# Altium integrated library NSC Converter Analog to Digital.IntLib: 246 symbols (part 3 of 7)
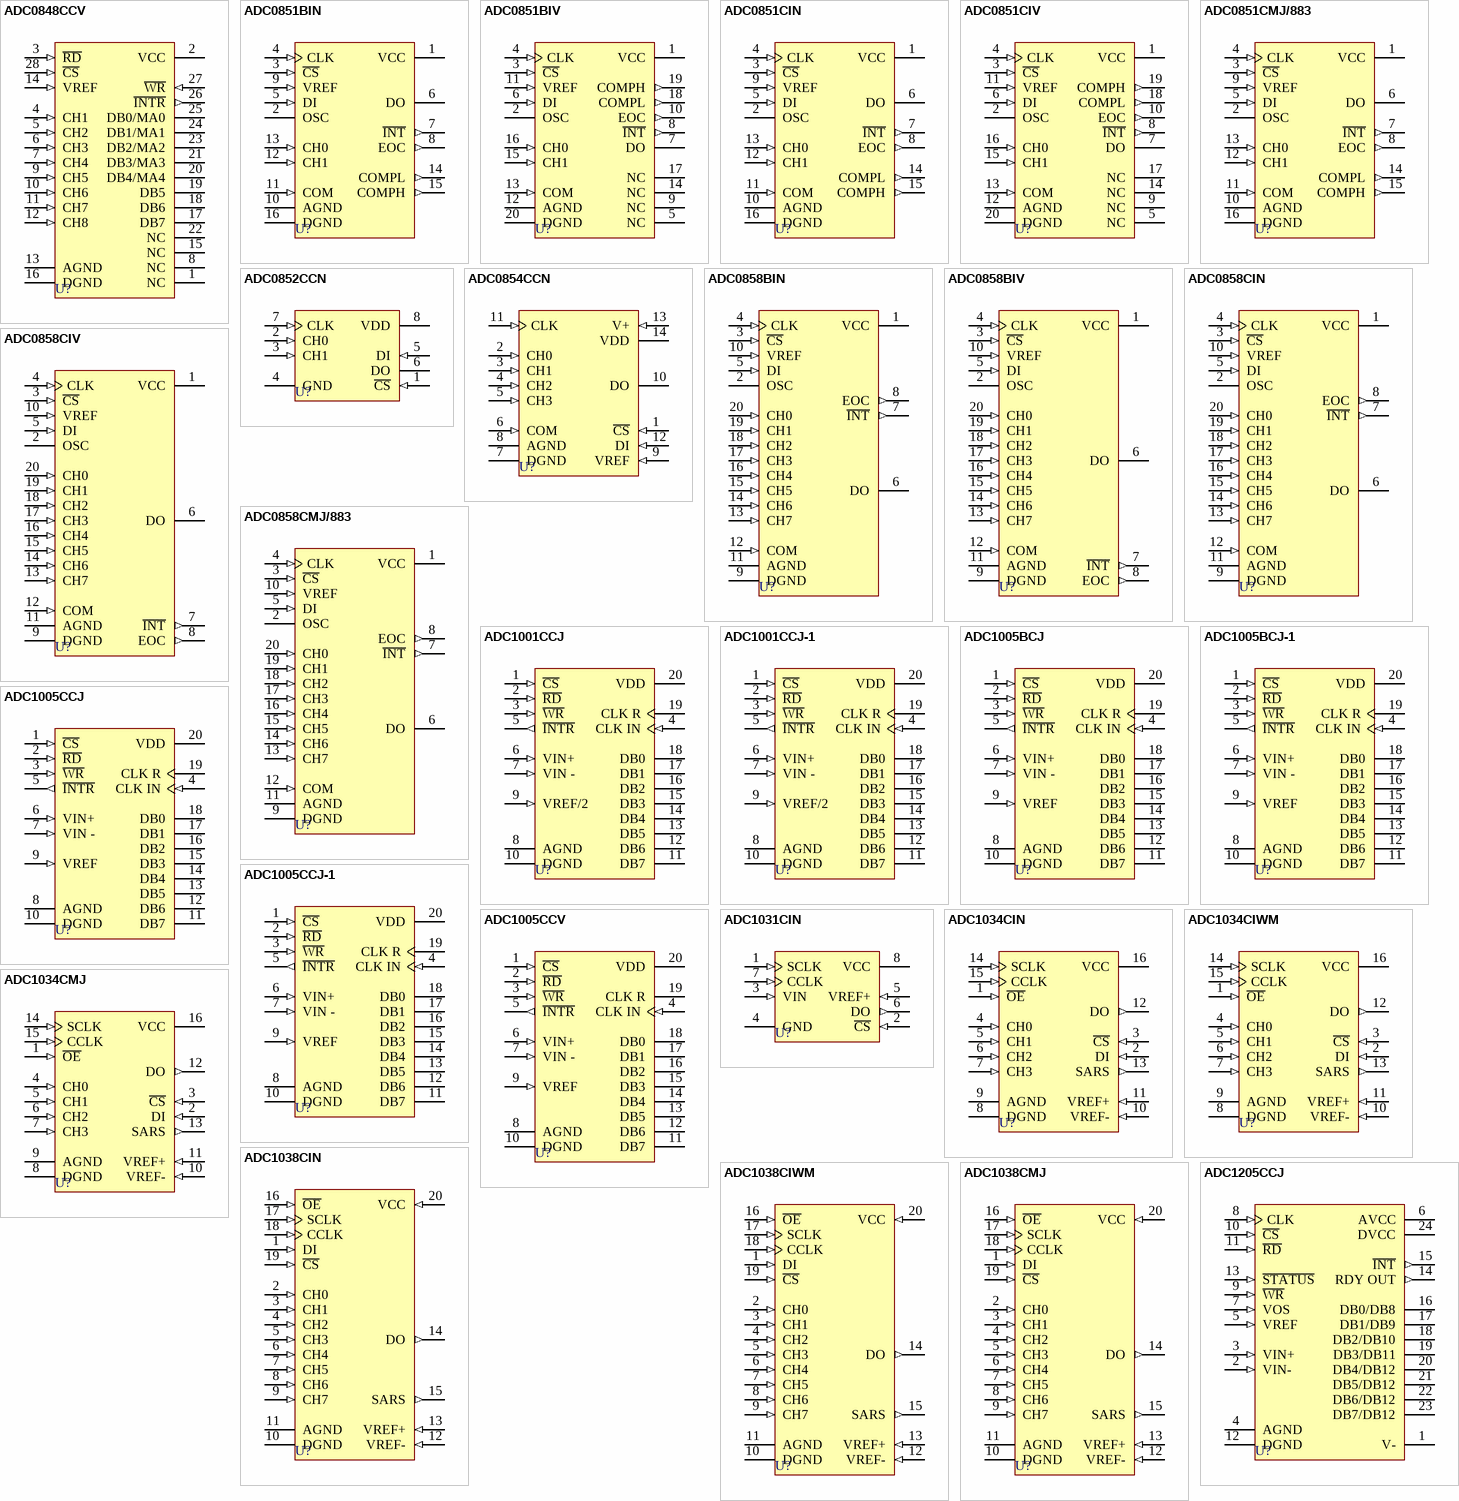
[diagram p11: symbols ADC0848CCV to ADC1205CCJ]

## ADC0848CCV
designator U?
8-Bit µP-Compatible A/D Converter with Multiplexer Option; Published: 15-Apr-2002; LatestRevisionDate: 13-Apr-2006; LatestRevisionNote: IPC-7351 Footprint Added.; DatasheetVersion: Jun-1999; PackageVersion: 2000; PackageReference: V28A; Publisher: Altium Limited; PackageDescription: 28-Pin Leaded Chip Carrier 1.27 mm Pitch; Code_IPC: PLCC-28; ComponentLink1Description: Manufacturer Link; ComponentLink1URL: http://www.national.com/; ComponentLink2Description: Datasheet; ComponentLink2URL: http://www.national.com/ds.cgi/DC/ADC0844.pdf; ComponentLink3Description: URL Link1; ComponentLink3URL: http://www.national.com/pf/DC/ADC0848.html
footprint V28A_N (Leaded Chip Carrier, 28-Leads, Body 11.5x11.5mm, Pitch 1.27mm, IPC Medium Density)
footprint V28A_L (Leaded Chip Carrier, 28-Leads, Body 11.5x11.5mm, Pitch 1.27mm, IPC High Density)
footprint V28A_M (Leaded Chip Carrier, 28-Leads, Body 11.5x11.5mm, Pitch 1.27mm, IPC Low Density)
3D model ADC0848-V28A (28-Pin Leaded Chip Carrier 1.27 mm Pitch)
pins: 1 NC, 2 VCC (power), 3 ~{RD} (in), 4 CH1 (in), 5 CH2 (in), 6 CH3 (in), 7 CH4 (in), 8 NC, 9 CH5 (in), 10 CH6 (in), 11 CH7 (in), 12 CH8 (in), 13 AGND (power), 14 VREF (in), 15 NC, 16 DGND (power), 17 DB7 (hiz), 18 DB6 (hiz), 19 DB5 (hiz), 20 DB4/MA4 (hiz), 21 DB3/MA3 (hiz), 22 NC, 23 DB2/MA2 (hiz), 24 DB1/MA1 (hiz), 25 DB0/MA0 (hiz), 26 ~{INTR} (out), 27 ~{WR} (in), 28 ~{CS} (in)

## ADC0851BIN
designator U?
8-Bit Analog Data Acquisition and Monitoring System; ComponentAvailability: Obsolete; Published: 15-Apr-2002; LatestRevisionDate: 06-Jun-2005; LatestRevisionNote: Stylized 3D Model Added.; DatasheetVersion: Jan-1995; PackageVersion: 2000; PackageReference: N16E; Publisher: Altium Limited; PackageDescription: DIP; 16 Leads; Row Spacing 7.62 mm; Pitch 2.54 mm; ComponentLink1Description: Manufacturer Link; ComponentLink1URL: http://www.national.com/; ComponentLink2Description: Datasheet; ComponentLink2URL: http://www.national.com/ds.cgi/DC/ADC0851.pdf; ComponentLink3Description: Discontinuation Notice; ComponentLink3URL: http://www.national.com/obs/obsolescence.txt; ComponentLink4Description: URL Link1; ComponentLink4URL: http://www.national.com/pf/DC/ADC0851.html
footprint N16E (DIP; 16 Leads; Row Spacing 7.62 mm; Pitch 2.54 mm)
3D model N16E (DIP; 16 Leads; Row Spacing 7.62 mm; Pitch 2.54 mm)
pins: 1 VCC (power), 2 OSC, 3 ~{CS} (in), 4 CLK (in), 5 DI (in), 6 DO (hiz), 7 ~{INT} (out), 8 EOC (out), 9 VREF (in), 10 AGND (power), 11 COM (in), 12 CH1 (in), 13 CH0 (in), 14 COMPL (out), 15 COMPH (out), 16 DGND (power)

## ADC0851BIV
designator U?
8-Bit Analog Data Acquisition and Monitoring System; ComponentAvailability: Obsolete; Published: 15-Apr-2002; LatestRevisionDate: 13-Apr-2006; LatestRevisionNote: IPC-7351 Footprint Added.; DatasheetVersion: Jan-1995; PackageVersion: 1996; PackageReference: V20A; Publisher: Altium Limited; PackageDescription: 20-Pin Leaded Chip Carrier 1.27 mm Pitch; Code_IPC: PLCC-20; ComponentLink1Description: Manufacturer Link; ComponentLink1URL: http://www.national.com/; ComponentLink2Description: Datasheet; ComponentLink2URL: http://www.national.com/ds.cgi/DC/ADC0851.pdf; ComponentLink3Description: Discontinuation Notice; ComponentLink3URL: http://www.national.com/obs/obsolescence.txt; ComponentLink4Description: URL Link1; ComponentLink4URL: http://www.national.com/pf/DC/ADC0851.html
footprint V20A_N (Leaded Chip Carrier, 20-Leads, Body 9x9mm, Pitch 1.27mm, IPC Medium Density)
footprint V20A_L (Leaded Chip Carrier, 20-Leads, Body 9x9mm, Pitch 1.27mm, IPC High Density)
footprint V20A_M (Leaded Chip Carrier, 20-Leads, Body 9x9mm, Pitch 1.27mm, IPC Low Density)
3D model ADC0851-V20A (20-Pin Leaded Chip Carrier 1.27 mm Pitch)
pins: 1 VCC (power), 2 OSC, 3 ~{CS} (in), 4 CLK (in), 5 NC, 6 DI (in), 7 DO (hiz), 8 ~{INT} (out), 9 NC, 10 EOC (out), 11 VREF (in), 12 AGND (power), 13 COM (in), 14 NC, 15 CH1 (in), 16 CH0 (in), 17 NC, 18 COMPL (out), 19 COMPH (out), 20 DGND (power)

## ADC0851CIN
designator U?
8-Bit Analog Data Acquisition and Monitoring System; ComponentAvailability: Obsolete; Published: 15-Apr-2002; LatestRevisionDate: 06-Jun-2005; LatestRevisionNote: Stylized 3D Model Added.; DatasheetVersion: Jan-1995; PackageVersion: 2000; PackageReference: N16E; Publisher: Altium Limited; PackageDescription: DIP; 16 Leads; Row Spacing 7.62 mm; Pitch 2.54 mm; ComponentLink1Description: Manufacturer Link; ComponentLink1URL: http://www.national.com/; ComponentLink2Description: Datasheet; ComponentLink2URL: http://www.national.com/ds.cgi/DC/ADC0851.pdf; ComponentLink3Description: Discontinuation Notice; ComponentLink3URL: http://www.national.com/obs/obsolescence.txt; ComponentLink4Description: URL Link1; ComponentLink4URL: http://www.national.com/pf/DC/ADC0851.html
footprint N16E (DIP; 16 Leads; Row Spacing 7.62 mm; Pitch 2.54 mm)
3D model N16E (DIP; 16 Leads; Row Spacing 7.62 mm; Pitch 2.54 mm)
pins: 1 VCC (power), 2 OSC, 3 ~{CS} (in), 4 CLK (in), 5 DI (in), 6 DO (hiz), 7 ~{INT} (out), 8 EOC (out), 9 VREF (in), 10 AGND (power), 11 COM (in), 12 CH1 (in), 13 CH0 (in), 14 COMPL (out), 15 COMPH (out), 16 DGND (power)

## ADC0851CIV
designator U?
8-Bit Analog Data Acquisition and Monitoring System; Published: 15-Apr-2002; LatestRevisionDate: 13-Apr-2006; LatestRevisionNote: IPC-7351 Footprint Added.; DatasheetVersion: Jan-1995; PackageVersion: 1996; PackageReference: V20A; Publisher: Altium Limited; PackageDescription: 20-Pin Leaded Chip Carrier 1.27 mm Pitch; Code_IPC: PLCC-20; ComponentLink1Description: Manufacturer Link; ComponentLink1URL: http://www.national.com/; ComponentLink2Description: Datasheet; ComponentLink2URL: http://www.national.com/ds.cgi/DC/ADC0851.pdf; ComponentLink3Description: URL Link1; ComponentLink3URL: http://www.national.com/pf/DC/ADC0851.html
footprint V20A_N (Leaded Chip Carrier, 20-Leads, Body 9x9mm, Pitch 1.27mm, IPC Medium Density)
footprint V20A_L (Leaded Chip Carrier, 20-Leads, Body 9x9mm, Pitch 1.27mm, IPC High Density)
footprint V20A_M (Leaded Chip Carrier, 20-Leads, Body 9x9mm, Pitch 1.27mm, IPC Low Density)
3D model ADC0851-V20A (20-Pin Leaded Chip Carrier 1.27 mm Pitch)
pins: 1 VCC (power), 2 OSC, 3 ~{CS} (in), 4 CLK (in), 5 NC, 6 DI (in), 7 DO (hiz), 8 ~{INT} (out), 9 NC, 10 EOC (out), 11 VREF (in), 12 AGND (power), 13 COM (in), 14 NC, 15 CH1 (in), 16 CH0 (in), 17 NC, 18 COMPL (out), 19 COMPH (out), 20 DGND (power)

## ADC0851CMJ/883
designator U?
8-Bit Analog Data Acquisition and Monitoring System; Published: 15-Apr-2002; LatestRevisionDate: 06-Jun-2005; LatestRevisionNote: Stylized 3D Model Added.; DatasheetVersion: Jan-1995; PackageVersion: 2000; PackageReference: J16A; Publisher: Altium Limited; PackageDescription: DIP; 16 Leads; Row Spacing 7.62 mm; Pitch 2.54 mm; ComponentLink1Description: Manufacturer Link; ComponentLink1URL: http://www.national.com/; ComponentLink2Description: Datasheet; ComponentLink2URL: http://www.national.com/ds.cgi/DC/ADC0851.pdf; ComponentLink3Description: URL Link1; ComponentLink3URL: http://www.national.com/pf/DC/ADC0851.html
footprint J16A (DIP; 16 Leads; Row Spacing 7.62 mm; Pitch 2.54 mm)
3D model N16E (DIP; 16 Leads; Row Spacing 7.62 mm; Pitch 2.54 mm)
pins: 1 VCC (power), 2 OSC, 3 ~{CS} (in), 4 CLK (in), 5 DI (in), 6 DO (hiz), 7 ~{INT} (out), 8 EOC (out), 9 VREF (in), 10 AGND (power), 11 COM (in), 12 CH1 (in), 13 CH0 (in), 14 COMPL (out), 15 COMPH (out), 16 DGND (power)

## ADC0852CCN
designator U?
Multiplexed Comparator with 8-Bit Reference Divider; ComponentAvailability: Obsolete; Published: 15-Apr-2002; LatestRevisionDate: 06-Jun-2005; LatestRevisionNote: Stylized 3D Model Added.; DatasheetVersion: Apr-1995; PackageVersion: Sep-1997; PackageReference: N08E; Publisher: Altium Limited; PackageDescription: DIP; 8 Leads; Row Spacing 7.62 mm; Pitch 2.54 mm; ComponentLink1Description: Manufacturer Link; ComponentLink1URL: http://www.national.com/; ComponentLink2Description: Datasheet; ComponentLink2URL: http://www.national.com/ds.cgi/DC/ADC0852.pdf; ComponentLink3Description: Discontinuation Notice; ComponentLink3URL: http://www.national.com/obs/obsolescence.txt; ComponentLink4Description: URL Link1; ComponentLink4URL: http://www.national.com/pf/DC/ADC0852.html
footprint N08E (DIP; 8 Leads; Row Spacing 7.62 mm; Pitch 2.54 mm)
3D model N08E (DIP; 8 Leads; Row Spacing 7.62 mm; Pitch 2.54 mm)
pins: 1 ~{CS} (in), 2 CH0 (in), 3 CH1 (in), 4 GND (power), 5 DI (in), 6 DO (hiz), 7 CLK (in), 8 VDD (power)

## ADC0854CCN
designator U?
Multiplexed Comparator with 8-Bit Reference Divider; ComponentAvailability: Obsolete; Published: 15-Apr-2002; LatestRevisionDate: 06-Jun-2005; LatestRevisionNote: Stylized 3D Model Added.; DatasheetVersion: Apr-1995; PackageVersion: 2000; PackageReference: N14A; Publisher: Altium Limited; PackageDescription: DIP; 14 Leads; Row Spacing 7.62 mm; Pitch 2.54 mm; ComponentLink1Description: Manufacturer Link; ComponentLink1URL: http://www.national.com/; ComponentLink2Description: Datasheet; ComponentLink2URL: http://www.national.com/ds.cgi/DC/ADC0852.pdf; ComponentLink3Description: Discontinuation Notice; ComponentLink3URL: http://www.national.com/obs/obsolescence.txt; ComponentLink4Description: URL Link1; ComponentLink4URL: http://www.national.com/pf/DC/ADC0854.html
footprint N14A (DIP; 14 Leads; Row Spacing 7.62 mm; Pitch 2.54 mm)
3D model N14A (DIP; 14 Leads; Row Spacing 7.62 mm; Pitch 2.54 mm)
pins: 1 ~{CS} (in), 2 CH0 (in), 3 CH1 (in), 4 CH2 (in), 5 CH3 (in), 6 COM (in), 7 DGND (power), 8 AGND (power), 9 VREF (in), 10 DO (hiz), 11 CLK (in), 12 DI (in), 13 V+ (in), 14 VDD (power)

## ADC0858BIN
designator U?
8-Bit Analog Data Acquisition and Monitoring System; ComponentAvailability: Obsolete; Published: 15-Apr-2002; LatestRevisionDate: 06-Jun-2005; LatestRevisionNote: Stylized 3D Model Added.; DatasheetVersion: Jan-1995; PackageVersion: 2000; PackageReference: N20A; Publisher: Altium Limited; PackageDescription: DIP; 20 Leads; Row Spacing 7.62 mm; Pitch 2.54 mm; Code_JEDEC: MS-001-AD; ComponentLink1Description: Manufacturer Link; ComponentLink1URL: http://www.national.com/; ComponentLink2Description: Datasheet; ComponentLink2URL: http://www.national.com/ds.cgi/DC/ADC0851.pdf; ComponentLink3Description: Discontinuation Notice; ComponentLink3URL: http://www.national.com/obs/obsolescence.txt; ComponentLink4Description: URL Link1; ComponentLink4URL: http://www.national.com/pf/DC/ADC0858.html
footprint N20A (DIP; 20 Leads; Row Spacing 7.62 mm; Pitch 2.54 mm)
3D model N20A (DIP; 20 Leads; Row Spacing 7.62 mm; Pitch 2.54 mm)
pins: 1 VCC (power), 2 OSC, 3 ~{CS} (in), 4 CLK (in), 5 DI (in), 6 DO (hiz), 7 ~{INT} (out), 8 EOC (out), 9 DGND (power), 10 VREF (in), 11 AGND (power), 12 COM (in), 13 CH7 (in), 14 CH6 (in), 15 CH5 (in), 16 CH4 (in), 17 CH3 (in), 18 CH2 (in), 19 CH1 (in), 20 CH0 (in)

## ADC0858BIV
designator U?
8-Bit Analog Data Acquisition and Monitoring System; ComponentAvailability: Obsolete; Published: 15-Apr-2002; LatestRevisionDate: 13-Apr-2006; LatestRevisionNote: IPC-7351 Footprint Added.; DatasheetVersion: Jan-1995; PackageVersion: 1996; PackageReference: V20A; Publisher: Altium Limited; PackageDescription: 20-Pin Leaded Chip Carrier 1.27 mm Pitch; Code_IPC: PLCC-20; ComponentLink1Description: Manufacturer Link; ComponentLink1URL: http://www.national.com/; ComponentLink2Description: Datasheet; ComponentLink2URL: http://www.national.com/ds.cgi/DC/ADC0851.pdf; ComponentLink3Description: Discontinuation Notice; ComponentLink3URL: http://www.national.com/obs/obsolescence.txt; ComponentLink4Description: URL Link1; ComponentLink4URL: http://www.national.com/pf/DC/ADC0858.html
footprint V20A_N (Leaded Chip Carrier, 20-Leads, Body 9x9mm, Pitch 1.27mm, IPC Medium Density)
footprint V20A_L (Leaded Chip Carrier, 20-Leads, Body 9x9mm, Pitch 1.27mm, IPC High Density)
footprint V20A_M (Leaded Chip Carrier, 20-Leads, Body 9x9mm, Pitch 1.27mm, IPC Low Density)
3D model ADC0858-V20A (20-Pin Leaded Chip Carrier 1.27 mm Pitch)
pins: 1 VCC (power), 2 OSC, 3 ~{CS} (in), 4 CLK (in), 5 DI (in), 6 DO (hiz), 7 ~{INT} (out), 8 EOC (out), 9 DGND (power), 10 VREF (in), 11 AGND (power), 12 COM (in), 13 CH7 (in), 14 CH6 (in), 15 CH5 (in), 16 CH4 (in), 17 CH3 (in), 18 CH2 (in), 19 CH1 (in), 20 CH0 (in)

## ADC0858CIN
designator U?
8-Bit Analog Data Acquisition and Monitoring System; ComponentAvailability: Obsolete; Published: 15-Apr-2002; LatestRevisionDate: 06-Jun-2005; LatestRevisionNote: Stylized 3D Model Added.; DatasheetVersion: Jan-1995; PackageVersion: 2000; PackageReference: N20A; Publisher: Altium Limited; PackageDescription: DIP; 20 Leads; Row Spacing 7.62 mm; Pitch 2.54 mm; Code_JEDEC: MS-001-AD; ComponentLink1Description: Manufacturer Link; ComponentLink1URL: http://www.national.com/; ComponentLink2Description: Datasheet; ComponentLink2URL: http://www.national.com/ds.cgi/DC/ADC0851.pdf; ComponentLink3Description: Discontinuation Notice; ComponentLink3URL: http://www.national.com/obs/obsolescence.txt; ComponentLink4Description: URL Link1; ComponentLink4URL: http://www.national.com/pf/DC/ADC0858.html
footprint N20A (DIP; 20 Leads; Row Spacing 7.62 mm; Pitch 2.54 mm)
3D model N20A (DIP; 20 Leads; Row Spacing 7.62 mm; Pitch 2.54 mm)
pins: 1 VCC (power), 2 OSC, 3 ~{CS} (in), 4 CLK (in), 5 DI (in), 6 DO (hiz), 7 ~{INT} (out), 8 EOC (out), 9 DGND (power), 10 VREF (in), 11 AGND (power), 12 COM (in), 13 CH7 (in), 14 CH6 (in), 15 CH5 (in), 16 CH4 (in), 17 CH3 (in), 18 CH2 (in), 19 CH1 (in), 20 CH0 (in)

## ADC0858CIV
designator U?
8-Bit Analog Data Acquisition and Monitoring System; ComponentAvailability: Obsolete; Published: 15-Apr-2002; LatestRevisionDate: 13-Apr-2006; LatestRevisionNote: IPC-7351 Footprint Added.; DatasheetVersion: Jan-1995; PackageVersion: 1996; PackageReference: V20A; Publisher: Altium Limited; PackageDescription: 20-Pin Leaded Chip Carrier 1.27 mm Pitch; Code_IPC: PLCC-20; ComponentLink1Description: Manufacturer Link; ComponentLink1URL: http://www.national.com/; ComponentLink2Description: Datasheet; ComponentLink2URL: http://www.national.com/ds.cgi/DC/ADC0851.pdf; ComponentLink3Description: Discontinuation Notice; ComponentLink3URL: http://www.national.com/obs/obsolescence.txt; ComponentLink4Description: URL Link1; ComponentLink4URL: http://www.national.com/pf/DC/ADC0858.html
footprint V20A_N (Leaded Chip Carrier, 20-Leads, Body 9x9mm, Pitch 1.27mm, IPC Medium Density)
footprint V20A_L (Leaded Chip Carrier, 20-Leads, Body 9x9mm, Pitch 1.27mm, IPC High Density)
footprint V20A_M (Leaded Chip Carrier, 20-Leads, Body 9x9mm, Pitch 1.27mm, IPC Low Density)
3D model ADC0858-V20A (20-Pin Leaded Chip Carrier 1.27 mm Pitch)
pins: 1 VCC (power), 2 OSC, 3 ~{CS} (in), 4 CLK (in), 5 DI (in), 6 DO (hiz), 7 ~{INT} (out), 8 EOC (out), 9 DGND (power), 10 VREF (in), 11 AGND (power), 12 COM (in), 13 CH7 (in), 14 CH6 (in), 15 CH5 (in), 16 CH4 (in), 17 CH3 (in), 18 CH2 (in), 19 CH1 (in), 20 CH0 (in)

## ADC0858CMJ/883
designator U?
8-Bit Analog Data Acquisition and Monitoring System; Published: 15-Apr-2002; LatestRevisionDate: 06-Jun-2005; LatestRevisionNote: Stylized 3D Model Added.; DatasheetVersion: Jan-1995; PackageVersion: 2000; PackageReference: J20A; Publisher: Altium Limited; PackageDescription: DIP; 20 Leads; Row Spacing 7.62 mm; Pitch 2.54 mm; Code_JEDEC: MS-015-AE; ComponentLink1Description: Manufacturer Link; ComponentLink1URL: http://www.national.com/; ComponentLink2Description: Datasheet; ComponentLink2URL: http://www.national.com/ds.cgi/DC/ADC0851.pdf; ComponentLink3Description: URL Link1; ComponentLink3URL: http://www.national.com/pf/DC/ADC0858.html
footprint J20A (DIP; 20 Leads; Row Spacing 7.62 mm; Pitch 2.54 mm)
3D model J20A (DIP; 20 Leads; Row Spacing 7.62 mm; Pitch 2.54 mm)
pins: 1 VCC (power), 2 OSC, 3 ~{CS} (in), 4 CLK (in), 5 DI (in), 6 DO (hiz), 7 ~{INT} (out), 8 EOC (out), 9 DGND (power), 10 VREF (in), 11 AGND (power), 12 COM (in), 13 CH7 (in), 14 CH6 (in), 15 CH5 (in), 16 CH4 (in), 17 CH3 (in), 18 CH2 (in), 19 CH1 (in), 20 CH0 (in)

## ADC1001CCJ
designator U?
10-Bit µP-Compatible A/D Converter; Published: 15-Apr-2002; LatestRevisionDate: 06-Jun-2005; LatestRevisionNote: Stylized 3D Model Added.; DatasheetVersion: Jun-1999; PackageVersion: 2000; PackageReference: J20A; Publisher: Altium Limited; PackageDescription: DIP; 20 Leads; Row Spacing 7.62 mm; Pitch 2.54 mm; Code_JEDEC: MS-015-AE; ComponentLink1Description: Manufacturer Link; ComponentLink1URL: http://www.national.com/; ComponentLink2Description: Datasheet; ComponentLink2URL: http://www.national.com/ds.cgi/DC/ADC1001.pdf; ComponentLink3Description: URL Link1; ComponentLink3URL: http://www.national.com/pf/DC/ADC1001.html
footprint J20A (DIP; 20 Leads; Row Spacing 7.62 mm; Pitch 2.54 mm)
3D model J20A (DIP; 20 Leads; Row Spacing 7.62 mm; Pitch 2.54 mm)
pins: 1 ~{CS} (in), 2 ~{RD} (in), 3 ~{WR} (in), 4 CLK IN (in), 5 ~{INTR} (out), 6 VIN+ (in), 7 VIN - (in), 8 AGND (power), 9 VREF/2 (in), 10 DGND (power), 11 DB7 (hiz), 12 DB6 (hiz), 13 DB5 (hiz), 14 DB4 (hiz), 15 DB3 (hiz), 16 DB2 (hiz), 17 DB1 (hiz), 18 DB0 (hiz), 19 CLK R, 20 VDD (power)

## ADC1001CCJ-1
designator U?
10-Bit µP-Compatible A/D Converter; Published: 15-Apr-2002; LatestRevisionDate: 06-Jun-2005; LatestRevisionNote: Stylized 3D Model Added.; DatasheetVersion: Jun-1999; PackageVersion: 2000; PackageReference: J20A; Publisher: Altium Limited; PackageDescription: DIP; 20 Leads; Row Spacing 7.62 mm; Pitch 2.54 mm; Code_JEDEC: MS-015-AE; ComponentLink1Description: Manufacturer Link; ComponentLink1URL: http://www.national.com/; ComponentLink2Description: Datasheet; ComponentLink2URL: http://www.national.com/ds.cgi/DC/ADC1001.pdf; ComponentLink3Description: URL Link1; ComponentLink3URL: http://www.national.com/pf/DC/ADC1001.html
footprint J20A (DIP; 20 Leads; Row Spacing 7.62 mm; Pitch 2.54 mm)
3D model J20A (DIP; 20 Leads; Row Spacing 7.62 mm; Pitch 2.54 mm)
pins: 1 ~{CS} (in), 2 ~{RD} (in), 3 ~{WR} (in), 4 CLK IN (in), 5 ~{INTR} (out), 6 VIN+ (in), 7 VIN - (in), 8 AGND (power), 9 VREF/2 (in), 10 DGND (power), 11 DB7 (hiz), 12 DB6 (hiz), 13 DB5 (hiz), 14 DB4 (hiz), 15 DB3 (hiz), 16 DB2 (hiz), 17 DB1 (hiz), 18 DB0 (hiz), 19 CLK R, 20 VDD (power)

## ADC1005BCJ
designator U?
10-Bit µP-Compatible A/D Converter; Published: 15-Apr-2002; LatestRevisionDate: 06-Jun-2005; LatestRevisionNote: Stylized 3D Model Added.; DatasheetVersion: Jun-1999; PackageVersion: 2000; PackageReference: J20A; Publisher: Altium Limited; PackageDescription: DIP; 20 Leads; Row Spacing 7.62 mm; Pitch 2.54 mm; Code_JEDEC: MS-015-AE; ComponentLink1Description: Manufacturer Link; ComponentLink1URL: http://www.national.com/; ComponentLink2Description: Datasheet; ComponentLink2URL: http://www.national.com/ds.cgi/DC/ADC1005.pdf; ComponentLink3Description: URL Link1; ComponentLink3URL: http://www.national.com/pf/DC/ADC1005.html
footprint J20A (DIP; 20 Leads; Row Spacing 7.62 mm; Pitch 2.54 mm)
3D model J20A (DIP; 20 Leads; Row Spacing 7.62 mm; Pitch 2.54 mm)
pins: 1 ~{CS} (in), 2 ~{RD} (in), 3 ~{WR} (in), 4 CLK IN (in), 5 ~{INTR} (out), 6 VIN+ (in), 7 VIN - (in), 8 AGND (power), 9 VREF (in), 10 DGND (power), 11 DB7 (hiz), 12 DB6 (hiz), 13 DB5 (hiz), 14 DB4 (hiz), 15 DB3 (hiz), 16 DB2 (hiz), 17 DB1 (hiz), 18 DB0 (hiz), 19 CLK R, 20 VDD (power)

## ADC1005BCJ-1
designator U?
10-Bit µP-Compatible A/D Converter; Published: 15-Apr-2002; LatestRevisionDate: 06-Jun-2005; LatestRevisionNote: Stylized 3D Model Added.; DatasheetVersion: Jun-1999; PackageVersion: 2000; PackageReference: J20A; Publisher: Altium Limited; PackageDescription: DIP; 20 Leads; Row Spacing 7.62 mm; Pitch 2.54 mm; Code_JEDEC: MS-015-AE; ComponentLink1Description: Manufacturer Link; ComponentLink1URL: http://www.national.com/; ComponentLink2Description: Datasheet; ComponentLink2URL: http://www.national.com/ds.cgi/DC/ADC1005.pdf; ComponentLink3Description: URL Link1; ComponentLink3URL: http://www.national.com/pf/DC/ADC1005.html
footprint J20A (DIP; 20 Leads; Row Spacing 7.62 mm; Pitch 2.54 mm)
3D model J20A (DIP; 20 Leads; Row Spacing 7.62 mm; Pitch 2.54 mm)
pins: 1 ~{CS} (in), 2 ~{RD} (in), 3 ~{WR} (in), 4 CLK IN (in), 5 ~{INTR} (out), 6 VIN+ (in), 7 VIN - (in), 8 AGND (power), 9 VREF (in), 10 DGND (power), 11 DB7 (hiz), 12 DB6 (hiz), 13 DB5 (hiz), 14 DB4 (hiz), 15 DB3 (hiz), 16 DB2 (hiz), 17 DB1 (hiz), 18 DB0 (hiz), 19 CLK R, 20 VDD (power)

## ADC1005CCJ
designator U?
10-Bit µP-Compatible A/D Converter; ComponentAvailability: Obsolete; Published: 15-Apr-2002; LatestRevisionDate: 06-Jun-2005; LatestRevisionNote: Stylized 3D Model Added.; DatasheetVersion: Jun-1999; PackageVersion: 2000; PackageReference: J20A; Publisher: Altium Limited; PackageDescription: DIP; 20 Leads; Row Spacing 7.62 mm; Pitch 2.54 mm; Code_JEDEC: MS-015-AE; ComponentLink1Description: Manufacturer Link; ComponentLink1URL: http://www.national.com/; ComponentLink2Description: Datasheet; ComponentLink2URL: http://www.national.com/ds.cgi/DC/ADC1005.pdf; ComponentLink3Description: Discontinuation Notice; ComponentLink3URL: http://www.national.com/obs/obsolescence.txt; ComponentLink4Description: URL Link1; ComponentLink4URL: http://www.national.com/pf/DC/ADC1005.html
footprint J20A (DIP; 20 Leads; Row Spacing 7.62 mm; Pitch 2.54 mm)
3D model J20A (DIP; 20 Leads; Row Spacing 7.62 mm; Pitch 2.54 mm)
pins: 1 ~{CS} (in), 2 ~{RD} (in), 3 ~{WR} (in), 4 CLK IN (in), 5 ~{INTR} (out), 6 VIN+ (in), 7 VIN - (in), 8 AGND (power), 9 VREF (in), 10 DGND (power), 11 DB7 (hiz), 12 DB6 (hiz), 13 DB5 (hiz), 14 DB4 (hiz), 15 DB3 (hiz), 16 DB2 (hiz), 17 DB1 (hiz), 18 DB0 (hiz), 19 CLK R, 20 VDD (power)

## ADC1005CCJ-1
designator U?
10-Bit µP-Compatible A/D Converter; Published: 15-Apr-2002; LatestRevisionDate: 06-Jun-2005; LatestRevisionNote: Stylized 3D Model Added.; DatasheetVersion: Jun-1999; PackageVersion: 2000; PackageReference: J20A; Publisher: Altium Limited; PackageDescription: DIP; 20 Leads; Row Spacing 7.62 mm; Pitch 2.54 mm; Code_JEDEC: MS-015-AE; ComponentLink1Description: Manufacturer Link; ComponentLink1URL: http://www.national.com/; ComponentLink2Description: Datasheet; ComponentLink2URL: http://www.national.com/ds.cgi/DC/ADC1005.pdf; ComponentLink3Description: URL Link1; ComponentLink3URL: http://www.national.com/pf/DC/ADC1005.html
footprint J20A (DIP; 20 Leads; Row Spacing 7.62 mm; Pitch 2.54 mm)
3D model J20A (DIP; 20 Leads; Row Spacing 7.62 mm; Pitch 2.54 mm)
pins: 1 ~{CS} (in), 2 ~{RD} (in), 3 ~{WR} (in), 4 CLK IN (in), 5 ~{INTR} (out), 6 VIN+ (in), 7 VIN - (in), 8 AGND (power), 9 VREF (in), 10 DGND (power), 11 DB7 (hiz), 12 DB6 (hiz), 13 DB5 (hiz), 14 DB4 (hiz), 15 DB3 (hiz), 16 DB2 (hiz), 17 DB1 (hiz), 18 DB0 (hiz), 19 CLK R, 20 VDD (power)

## ADC1005CCV
designator U?
10-Bit µP-Compatible A/D Converter; ComponentAvailability: Obsolete; Published: 15-Apr-2002; LatestRevisionDate: 13-Apr-2006; LatestRevisionNote: IPC-7351 Footprint Added.; DatasheetVersion: 1995; PackageVersion: 1996; PackageReference: V20A; Publisher: Altium Limited; PackageDescription: 20-Pin Leaded Chip Carrier 1.27 mm Pitch; Code_IPC: PLCC-20; ComponentLink1Description: Manufacturer Link; ComponentLink1URL: http://www.national.com/; ComponentLink2Description: Datasheet; ComponentLink2URL: http://www.national.com/ds.cgi/DC/ADC1005.pdf; ComponentLink3Description: Discontinuation Notice; ComponentLink3URL: http://www.national.com/obs/obsolescence.txt; ComponentLink4Description: URL Link1; ComponentLink4URL: http://www.national.com/pf/DC/ADC1005.html
footprint V20A_N (Leaded Chip Carrier, 20-Leads, Body 9x9mm, Pitch 1.27mm, IPC Medium Density)
footprint V20A_L (Leaded Chip Carrier, 20-Leads, Body 9x9mm, Pitch 1.27mm, IPC High Density)
footprint V20A_M (Leaded Chip Carrier, 20-Leads, Body 9x9mm, Pitch 1.27mm, IPC Low Density)
3D model ADC1005-V20A (20-Pin Leaded Chip Carrier 1.27 mm Pitch)
pins: 1 ~{CS} (in), 2 ~{RD} (in), 3 ~{WR} (in), 4 CLK IN (in), 5 ~{INTR} (out), 6 VIN+ (in), 7 VIN - (in), 8 AGND (power), 9 VREF (in), 10 DGND (power), 11 DB7 (hiz), 12 DB6 (hiz), 13 DB5 (hiz), 14 DB4 (hiz), 15 DB3 (hiz), 16 DB2 (hiz), 17 DB1 (hiz), 18 DB0 (hiz), 19 CLK R, 20 VDD (power)

## ADC1031CIN
designator U?
10-Bit Serial I/O A/D Converter with Analog Multiplexer and Track/Hold Function; ComponentAvailability: Obsolete; Published: 15-Apr-2002; LatestRevisionDate: 06-Jun-2005; LatestRevisionNote: Stylized 3D Model Added.; DatasheetVersion: Jan-1995; PackageVersion: Sep-1997; PackageReference: N08E; Publisher: Altium Limited; PackageDescription: DIP; 8 Leads; Row Spacing 7.62 mm; Pitch 2.54 mm; ComponentLink1Description: Manufacturer Link; ComponentLink1URL: http://www.national.com/; ComponentLink2Description: Discontinuation Notice; ComponentLink2URL: http://www.national.com/obs/obsolescence.txt
footprint N08E (DIP; 8 Leads; Row Spacing 7.62 mm; Pitch 2.54 mm)
3D model N08E (DIP; 8 Leads; Row Spacing 7.62 mm; Pitch 2.54 mm)
pins: 1 SCLK (in), 2 ~{CS} (in), 3 VIN (in), 4 GND (power), 5 VREF+ (in), 6 DO (out), 7 CCLK (in), 8 VCC (power)

## ADC1034CIN
designator U?
10-Bit Serial I/O A/D Converter with Analog Multiplexer and Track/Hold Function; ComponentAvailability: Obsolete; Published: 15-Apr-2002; LatestRevisionDate: 06-Jun-2005; LatestRevisionNote: Stylized 3D Model Added.; DatasheetVersion: Jan-1995; PackageVersion: 2000; PackageReference: N16E; Publisher: Altium Limited; PackageDescription: DIP; 16 Leads; Row Spacing 7.62 mm; Pitch 2.54 mm; ComponentLink1Description: Manufacturer Link; ComponentLink1URL: http://www.national.com/; ComponentLink2Description: Discontinuation Notice; ComponentLink2URL: http://www.national.com/obs/obsolescence.txt
footprint N16E (DIP; 16 Leads; Row Spacing 7.62 mm; Pitch 2.54 mm)
3D model N16E (DIP; 16 Leads; Row Spacing 7.62 mm; Pitch 2.54 mm)
pins: 1 ~{OE} (in), 2 DI (in), 3 ~{CS} (in), 4 CH0 (in), 5 CH1 (in), 6 CH2 (in), 7 CH3 (in), 8 DGND (power), 9 AGND (power), 10 VREF- (in), 11 VREF+ (in), 12 DO (out), 13 SARS (out), 14 SCLK (in), 15 CCLK (in), 16 VCC (power)

## ADC1034CIWM
designator U?
10-Bit Serial I/O A/D Converter with Analog Multiplexer and Track/Hold Function; ComponentAvailability: Obsolete; Published: 15-Apr-2002; LatestRevisionDate: 13-Apr-2006; LatestRevisionNote: IPC-7351 Footprint Added.; DatasheetVersion: Jan-1995; PackageVersion: 2000; PackageReference: M16B; Publisher: Altium Limited; PackageDescription: 16-Pin Small Outline Integrated Circuit 1.27 mm Pitch; Code_JEDEC: MS-013-AA; Code_IPC: SOIC127P1030-16; ComponentLink1Description: Manufacturer Link; ComponentLink1URL: http://www.national.com/; ComponentLink2Description: Discontinuation Notice; ComponentLink2URL: http://www.national.com/obs/obsolescence.txt
footprint M16B_N (SOIC, 16-Leads, Body 10.3x7.5mm, Pitch 1.27mm, IPC Medium Density)
footprint M16B_L (SOIC, 16-Leads, Body 10.3x7.5mm, Pitch 1.27mm, IPC High Density)
footprint M16B_M (SOIC, 16-Leads, Body 10.3x7.5mm, Pitch 1.27mm, IPC Low Density)
3D model M16B (16-Pin Small Outline Integrated Circuit 1.27 mm Pitch)
pins: 1 ~{OE} (in), 2 DI (in), 3 ~{CS} (in), 4 CH0 (in), 5 CH1 (in), 6 CH2 (in), 7 CH3 (in), 8 DGND (power), 9 AGND (power), 10 VREF- (in), 11 VREF+ (in), 12 DO (out), 13 SARS (out), 14 SCLK (in), 15 CCLK (in), 16 VCC (power)

## ADC1034CMJ
designator U?
10-Bit Serial I/O A/D Converter with Analog Multiplexer and Track/Hold Function; ComponentAvailability: Obsolete; Published: 15-Apr-2002; LatestRevisionDate: 06-Jun-2005; LatestRevisionNote: Stylized 3D Model Added.; DatasheetVersion: Jan-1995; PackageVersion: 2000; PackageReference: J16A; Publisher: Altium Limited; PackageDescription: DIP; 16 Leads; Row Spacing 7.62 mm; Pitch 2.54 mm; ComponentLink1Description: Manufacturer Link; ComponentLink1URL: http://www.national.com/; ComponentLink2Description: Discontinuation Notice; ComponentLink2URL: http://www.national.com/obs/obsolescence.txt
footprint J16A (DIP; 16 Leads; Row Spacing 7.62 mm; Pitch 2.54 mm)
3D model N16E (DIP; 16 Leads; Row Spacing 7.62 mm; Pitch 2.54 mm)
pins: 1 ~{OE} (in), 2 DI (in), 3 ~{CS} (in), 4 CH0 (in), 5 CH1 (in), 6 CH2 (in), 7 CH3 (in), 8 DGND (power), 9 AGND (power), 10 VREF- (in), 11 VREF+ (in), 12 DO (out), 13 SARS (out), 14 SCLK (in), 15 CCLK (in), 16 VCC (power)

## ADC1038CIN
designator U?
10-Bit Serial I/O A/D Converter with Analog Multiplexer and Track/Hold Function; ComponentAvailability: Obsolete; Published: 15-Apr-2002; LatestRevisionDate: 06-Jun-2005; LatestRevisionNote: Stylized 3D Model Added.; DatasheetVersion: Jan-1995; PackageVersion: 2000; PackageReference: N20A; Publisher: Altium Limited; PackageDescription: DIP; 20 Leads; Row Spacing 7.62 mm; Pitch 2.54 mm; Code_JEDEC: MS-001-AD; ComponentLink1Description: Manufacturer Link; ComponentLink1URL: http://www.national.com/; ComponentLink2Description: Discontinuation Notice; ComponentLink2URL: http://www.national.com/obs/obsolescence.txt
footprint N20A (DIP; 20 Leads; Row Spacing 7.62 mm; Pitch 2.54 mm)
3D model N20A (DIP; 20 Leads; Row Spacing 7.62 mm; Pitch 2.54 mm)
pins: 1 DI (in), 2 CH0 (in), 3 CH1 (in), 4 CH2 (in), 5 CH3 (in), 6 CH4 (in), 7 CH5 (in), 8 CH6 (in), 9 CH7 (in), 10 DGND (power), 11 AGND (power), 12 VREF- (in), 13 VREF+ (in), 14 DO (out), 15 SARS (out), 16 ~{OE} (in), 17 SCLK (in), 18 CCLK (in), 19 ~{CS} (in), 20 VCC (in)

## ADC1038CIWM
designator U?
10-Bit Serial I/O A/D Converter with Analog Multiplexer and Track/Hold Function; Published: 15-Apr-2002; LatestRevisionDate: 13-Apr-2006; LatestRevisionNote: IPC-7351 Footprint Added.; DatasheetVersion: Jun-1999; PackageVersion: 2000; PackageReference: M20B; Publisher: Altium Limited; PackageDescription: 20-Pin Small Outline Integrated Circuit 1.27 mm Pitch; Code_JEDEC: MS-013-AC; Code_IPC: SOIC127P1030-20; ComponentLink1Description: Manufacturer Link; ComponentLink1URL: http://www.national.com/; ComponentLink2Description: Datasheet; ComponentLink2URL: http://www.national.com/ds.cgi/DC/ADC1038.pdf; ComponentLink3Description: URL Link1; ComponentLink3URL: http://www.national.com/pf/DC/ADC1038.html
footprint M20B_N (SOIC, 20-Leads, Body 12.8x7.5mm, Pitch 1.27mm, IPC Medium Density)
footprint M20B_L (SOIC, 20-Leads, Body 12.8x7.5mm, Pitch 1.27mm, IPC High Density)
footprint M20B_M (SOIC, 20-Leads, Body 12.8x7.5mm, Pitch 1.27mm, IPC Low Density)
3D model M20B (20-Pin Small Outline Integrated Circuit 1.27 mm Pitch)
pins: 1 DI (in), 2 CH0 (in), 3 CH1 (in), 4 CH2 (in), 5 CH3 (in), 6 CH4 (in), 7 CH5 (in), 8 CH6 (in), 9 CH7 (in), 10 DGND (power), 11 AGND (power), 12 VREF- (in), 13 VREF+ (in), 14 DO (out), 15 SARS (out), 16 ~{OE} (in), 17 SCLK (in), 18 CCLK (in), 19 ~{CS} (in), 20 VCC (in)

## ADC1038CMJ
designator U?
10-Bit Serial I/O A/D Converter with Analog Multiplexer and Track/Hold Function; ComponentAvailability: Obsolete; Published: 15-Apr-2002; LatestRevisionDate: 06-Jun-2005; LatestRevisionNote: Stylized 3D Model Added.; DatasheetVersion: Jan-1995; PackageVersion: 2000; PackageReference: J20A; Publisher: Altium Limited; PackageDescription: DIP; 20 Leads; Row Spacing 7.62 mm; Pitch 2.54 mm; Code_JEDEC: MS-015-AE; ComponentLink1Description: Manufacturer Link; ComponentLink1URL: http://www.national.com/; ComponentLink2Description: Discontinuation Notice; ComponentLink2URL: http://www.national.com/obs/obsolescence.txt
footprint J20A (DIP; 20 Leads; Row Spacing 7.62 mm; Pitch 2.54 mm)
3D model J20A (DIP; 20 Leads; Row Spacing 7.62 mm; Pitch 2.54 mm)
pins: 1 DI (in), 2 CH0 (in), 3 CH1 (in), 4 CH2 (in), 5 CH3 (in), 6 CH4 (in), 7 CH5 (in), 8 CH6 (in), 9 CH7 (in), 10 DGND (power), 11 AGND (power), 12 VREF- (in), 13 VREF+ (in), 14 DO (out), 15 SARS (out), 16 ~{OE} (in), 17 SCLK (in), 18 CCLK (in), 19 ~{CS} (in), 20 VCC (in)

## ADC1205CCJ
designator U?
12-Bit Plus Sign µP-Compatible A/D Converter; ComponentAvailability: Obsolete; Published: 15-Apr-2002; LatestRevisionDate: 06-Jun-2005; LatestRevisionNote: Stylized 3D Model Added.; DatasheetVersion: Jun-1994; PackageVersion: 2000; PackageReference: J24A; Publisher: Altium Limited; PackageDescription: DIP; 24 Leads; Row Spacing 15.24 mm; Pitch 2.54 mm; ComponentLink1Description: Manufacturer Link; ComponentLink1URL: http://www.national.com/; ComponentLink2Description: Datasheet; ComponentLink2URL: http://www.national.com/ds.cgi/DC/ADC1205.pdf; ComponentLink3Description: Discontinuation Notice; ComponentLink3URL: http://www.national.com/obs/obsolescence.txt; ComponentLink4Description: URL Link1; ComponentLink4URL: http://www.national.com/pf/DC/ADC1205.html
footprint J24A (DIP; 24 Leads; Row Spacing 15.24 mm; Pitch 2.54 mm)
3D model J24A (DIP; 24 Leads; Row Spacing 15.24 mm; Pitch 2.54 mm)
pins: 1 V- (power), 2 VIN- (in), 3 VIN+ (in), 4 AGND (power), 5 VREF (in), 6 AVCC (power), 7 VOS (in), 8 CLK (in), 9 ~{WR} (in), 10 ~{CS} (in), 11 ~{RD} (in), 12 DGND (power), 13 ~{STATUS} (in), 14 RDY OUT (out), 15 ~{INT} (out), 16 DB0/DB8 (hiz), 17 DB1/DB9 (hiz), 18 DB2/DB10 (hiz), 19 DB3/DB11 (hiz), 20 DB4/DB12 (hiz), 21 DB5/DB12 (hiz), 22 DB6/DB12 (hiz), 23 DB7/DB12 (hiz), 24 DVCC (power)

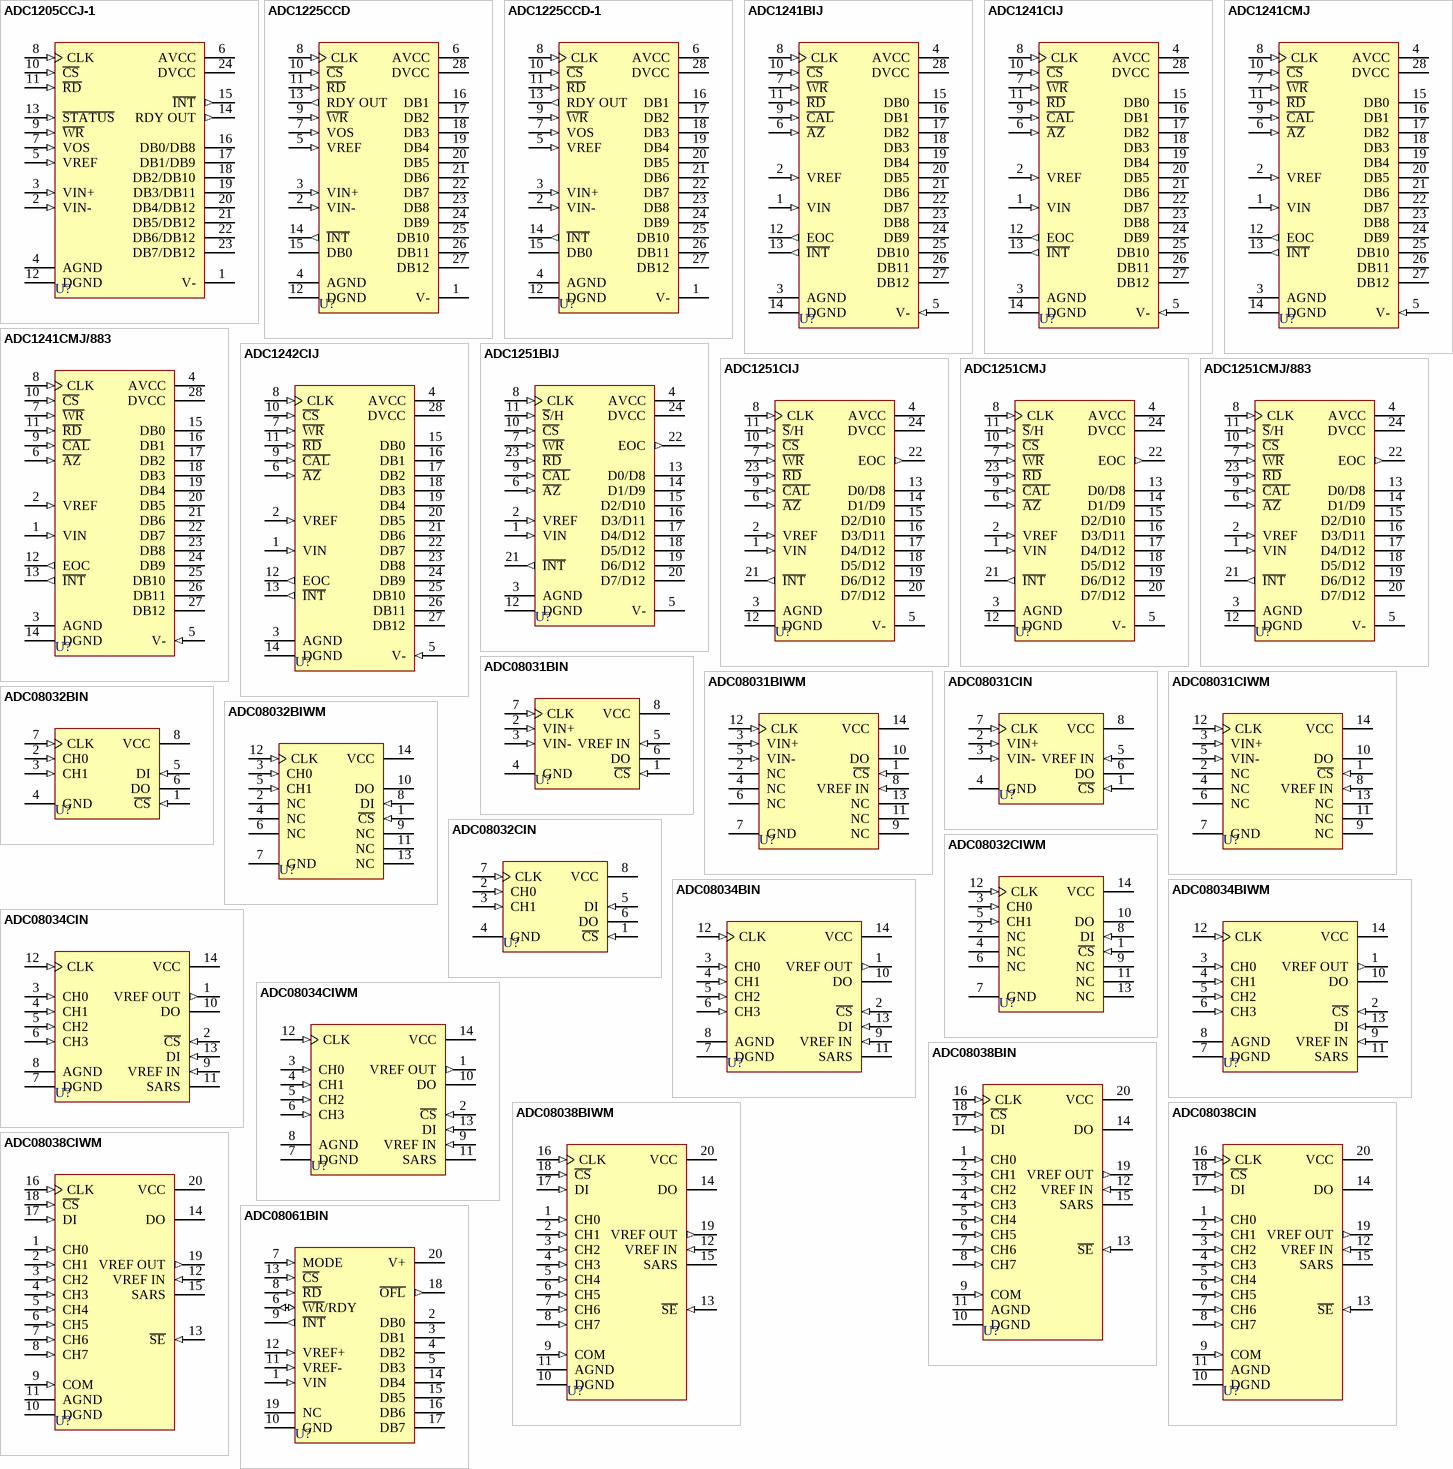
[diagram p4: symbols ADC1205CCJ-1 to ADC08061BIN]

## ADC1205CCJ-1
designator U?
12-Bit Plus Sign µP-Compatible A/D Converter; ComponentAvailability: Obsolete; Published: 15-Apr-2002; LatestRevisionDate: 06-Jun-2005; LatestRevisionNote: Stylized 3D Model Added.; DatasheetVersion: Jun-1994; PackageVersion: 2000; PackageReference: J24A; Publisher: Altium Limited; PackageDescription: DIP; 24 Leads; Row Spacing 15.24 mm; Pitch 2.54 mm; ComponentLink1Description: Manufacturer Link; ComponentLink1URL: http://www.national.com/; ComponentLink2Description: Datasheet; ComponentLink2URL: http://www.national.com/ds.cgi/DC/ADC1205.pdf; ComponentLink3Description: Discontinuation Notice; ComponentLink3URL: http://www.national.com/obs/obsolescence.txt; ComponentLink4Description: URL Link1; ComponentLink4URL: http://www.national.com/pf/DC/ADC1205.html
footprint J24A (DIP; 24 Leads; Row Spacing 15.24 mm; Pitch 2.54 mm)
3D model J24A (DIP; 24 Leads; Row Spacing 15.24 mm; Pitch 2.54 mm)
pins: 1 V- (power), 2 VIN- (in), 3 VIN+ (in), 4 AGND (power), 5 VREF (in), 6 AVCC (power), 7 VOS (in), 8 CLK (in), 9 ~{WR} (in), 10 ~{CS} (in), 11 ~{RD} (in), 12 DGND (power), 13 ~{STATUS} (in), 14 RDY OUT (out), 15 ~{INT} (out), 16 DB0/DB8 (hiz), 17 DB1/DB9 (hiz), 18 DB2/DB10 (hiz), 19 DB3/DB11 (hiz), 20 DB4/DB12 (hiz), 21 DB5/DB12 (hiz), 22 DB6/DB12 (hiz), 23 DB7/DB12 (hiz), 24 DVCC (power)

## ADC1225CCD
designator U?
12-Bit Plus Sign µP-Compatible A/D Converter; ComponentAvailability: Obsolete; Published: 15-Apr-2002; LatestRevisionDate: 06-Jun-2005; LatestRevisionNote: Stylized 3D Model Added.; DatasheetVersion: Jun-1994; PackageVersion: 2000; PackageReference: D28D; Publisher: Altium Limited; PackageDescription: DIP; 28 Leads; Row Spacing 15.24 mm; Pitch 2.54 mm; ComponentLink1Description: Manufacturer Link; ComponentLink1URL: http://www.national.com/; ComponentLink2Description: Datasheet; ComponentLink2URL: http://www.national.com/ds.cgi/DC/ADC1205.pdf; ComponentLink3Description: Discontinuation Notice; ComponentLink3URL: http://www.national.com/obs/obsolescence.txt; ComponentLink4Description: URL Link1; ComponentLink4URL: http://www.national.com/pf/DC/ADC1225.html
footprint D28D (DIP; 28 Leads; Row Spacing 15.24 mm; Pitch 2.54 mm)
3D model N28B (DIP; 28 Leads; Row Spacing 15.24 mm; Pitch 2.54 mm)
pins: 1 V- (power), 2 VIN- (in), 3 VIN+ (in), 4 AGND (power), 5 VREF (in), 6 AVCC (power), 7 VOS (in), 8 CLK (in), 9 ~{WR} (in), 10 ~{CS} (in), 11 ~{RD} (in), 12 DGND (power), 13 RDY OUT (out), 14 ~{INT} (out), 15 DB0 (hiz), 16 DB1 (hiz), 17 DB2 (hiz), 18 DB3 (hiz), 19 DB4 (hiz), 20 DB5 (hiz), 21 DB6 (hiz), 22 DB7 (hiz), 23 DB8 (hiz), 24 DB9 (hiz), 25 DB10 (hiz), 26 DB11 (hiz), 27 DB12 (hiz), 28 DVCC (power)

## ADC1225CCD-1
designator U?
12-Bit Plus Sign µP-Compatible A/D Converter; ComponentAvailability: Obsolete; Published: 15-Apr-2002; LatestRevisionDate: 06-Jun-2005; LatestRevisionNote: Stylized 3D Model Added.; DatasheetVersion: Jun-1994; PackageVersion: 2000; PackageReference: D28D; Publisher: Altium Limited; PackageDescription: DIP; 28 Leads; Row Spacing 15.24 mm; Pitch 2.54 mm; ComponentLink1Description: Manufacturer Link; ComponentLink1URL: http://www.national.com/; ComponentLink2Description: Datasheet; ComponentLink2URL: http://www.national.com/ds.cgi/DC/ADC1205.pdf; ComponentLink3Description: Discontinuation Notice; ComponentLink3URL: http://www.national.com/obs/obsolescence.txt; ComponentLink4Description: URL Link1; ComponentLink4URL: http://www.national.com/pf/DC/ADC1225.html
footprint D28D (DIP; 28 Leads; Row Spacing 15.24 mm; Pitch 2.54 mm)
3D model N28B (DIP; 28 Leads; Row Spacing 15.24 mm; Pitch 2.54 mm)
pins: 1 V- (power), 2 VIN- (in), 3 VIN+ (in), 4 AGND (power), 5 VREF (in), 6 AVCC (power), 7 VOS (in), 8 CLK (in), 9 ~{WR} (in), 10 ~{CS} (in), 11 ~{RD} (in), 12 DGND (power), 13 RDY OUT (out), 14 ~{INT} (out), 15 DB0 (hiz), 16 DB1 (hiz), 17 DB2 (hiz), 18 DB3 (hiz), 19 DB4 (hiz), 20 DB5 (hiz), 21 DB6 (hiz), 22 DB7 (hiz), 23 DB8 (hiz), 24 DB9 (hiz), 25 DB10 (hiz), 26 DB11 (hiz), 27 DB12 (hiz), 28 DVCC (power)

## ADC1241BIJ
designator U?
Self-Calibrating 12-Bit Plus Sign µP-Compatible A/D Converter with Sample-and-Hold; ComponentAvailability: Obsolete; Published: 15-Apr-2002; LatestRevisionDate: 06-Jun-2005; LatestRevisionNote: Stylized 3D Model Added.; DatasheetVersion: Nov-1994; PackageVersion: 2000; PackageReference: J28A; Publisher: Altium Limited; PackageDescription: DIP; 28 Leads; Row Spacing 15.24 mm; Pitch 2.54 mm; ComponentLink1Description: Manufacturer Link; ComponentLink1URL: http://www.national.com/; ComponentLink2Description: Datasheet; ComponentLink2URL: http://www.national.com/ds.cgi/DC/ADC1241.pdf; ComponentLink3Description: Discontinuation Notice; ComponentLink3URL: http://www.national.com/obs/obsolescence.txt; ComponentLink4Description: URL Link1; ComponentLink4URL: http://www.national.com/pf/DC/ADC1241.html
footprint J28A (DIP; 28 Leads; Row Spacing 15.24 mm; Pitch 2.54 mm)
3D model J28A (DIP; 28 Leads; Row Spacing 15.24 mm; Pitch 2.54 mm)
pins: 1 VIN (in), 2 VREF (in), 3 AGND (power), 4 AVCC (power), 5 V- (in), 6 ~{AZ} (in), 7 ~{WR} (in), 8 CLK (in), 9 ~{CAL} (in), 10 ~{CS} (in), 11 ~{RD} (in), 12 EOC (out), 13 ~{INT} (out), 14 DGND (power), 15 DB0 (hiz), 16 DB1 (hiz), 17 DB2 (hiz), 18 DB3 (hiz), 19 DB4 (hiz), 20 DB5 (hiz), 21 DB6 (hiz), 22 DB7 (hiz), 23 DB8 (hiz), 24 DB9 (hiz), 25 DB10 (hiz), 26 DB11 (hiz), 27 DB12 (hiz), 28 DVCC (power)

## ADC1241CIJ
designator U?
Self-Calibrating 12-Bit Plus Sign µP-Compatible A/D Converter with Sample-and-Hold; Published: 15-Apr-2002; LatestRevisionDate: 06-Jun-2005; LatestRevisionNote: Stylized 3D Model Added.; DatasheetVersion: Nov-1994; PackageVersion: 2000; PackageReference: J28A; Publisher: Altium Limited; PackageDescription: DIP; 28 Leads; Row Spacing 15.24 mm; Pitch 2.54 mm; ComponentLink1Description: Manufacturer Link; ComponentLink1URL: http://www.national.com/; ComponentLink2Description: Datasheet; ComponentLink2URL: http://www.national.com/ds.cgi/DC/ADC1241.pdf; ComponentLink3Description: URL Link1; ComponentLink3URL: http://www.national.com/pf/DC/ADC1241.html
footprint J28A (DIP; 28 Leads; Row Spacing 15.24 mm; Pitch 2.54 mm)
3D model J28A (DIP; 28 Leads; Row Spacing 15.24 mm; Pitch 2.54 mm)
pins: 1 VIN (in), 2 VREF (in), 3 AGND (power), 4 AVCC (power), 5 V- (in), 6 ~{AZ} (in), 7 ~{WR} (in), 8 CLK (in), 9 ~{CAL} (in), 10 ~{CS} (in), 11 ~{RD} (in), 12 EOC (out), 13 ~{INT} (out), 14 DGND (power), 15 DB0 (hiz), 16 DB1 (hiz), 17 DB2 (hiz), 18 DB3 (hiz), 19 DB4 (hiz), 20 DB5 (hiz), 21 DB6 (hiz), 22 DB7 (hiz), 23 DB8 (hiz), 24 DB9 (hiz), 25 DB10 (hiz), 26 DB11 (hiz), 27 DB12 (hiz), 28 DVCC (power)

## ADC1241CMJ
designator U?
Self-Calibrating 12-Bit Plus Sign µP-Compatible A/D Converter with Sample-and-Hold; ComponentAvailability: Obsolete; Published: 15-Apr-2002; LatestRevisionDate: 06-Jun-2005; LatestRevisionNote: Stylized 3D Model Added.; DatasheetVersion: Nov-1994; PackageVersion: 2000; PackageReference: J28A; Publisher: Altium Limited; PackageDescription: DIP; 28 Leads; Row Spacing 15.24 mm; Pitch 2.54 mm; ComponentLink1Description: Manufacturer Link; ComponentLink1URL: http://www.national.com/; ComponentLink2Description: Datasheet; ComponentLink2URL: http://www.national.com/ds.cgi/DC/ADC1241.pdf; ComponentLink3Description: Discontinuation Notice; ComponentLink3URL: http://www.national.com/obs/obsolescence.txt; ComponentLink4Description: URL Link1; ComponentLink4URL: http://www.national.com/pf/DC/ADC1241.html
footprint J28A (DIP; 28 Leads; Row Spacing 15.24 mm; Pitch 2.54 mm)
3D model J28A (DIP; 28 Leads; Row Spacing 15.24 mm; Pitch 2.54 mm)
pins: 1 VIN (in), 2 VREF (in), 3 AGND (power), 4 AVCC (power), 5 V- (in), 6 ~{AZ} (in), 7 ~{WR} (in), 8 CLK (in), 9 ~{CAL} (in), 10 ~{CS} (in), 11 ~{RD} (in), 12 EOC (out), 13 ~{INT} (out), 14 DGND (power), 15 DB0 (hiz), 16 DB1 (hiz), 17 DB2 (hiz), 18 DB3 (hiz), 19 DB4 (hiz), 20 DB5 (hiz), 21 DB6 (hiz), 22 DB7 (hiz), 23 DB8 (hiz), 24 DB9 (hiz), 25 DB10 (hiz), 26 DB11 (hiz), 27 DB12 (hiz), 28 DVCC (power)

## ADC1241CMJ/883
designator U?
Self-Calibrating 12-Bit Plus Sign µP-Compatible A/D Converter with Sample-and-Hold; ComponentAvailability: Obsolete; Published: 15-Apr-2002; LatestRevisionDate: 06-Jun-2005; LatestRevisionNote: Stylized 3D Model Added.; DatasheetVersion: Nov-1994; PackageVersion: 2000; PackageReference: J28A; Publisher: Altium Limited; PackageDescription: DIP; 28 Leads; Row Spacing 15.24 mm; Pitch 2.54 mm; ComponentLink1Description: Manufacturer Link; ComponentLink1URL: http://www.national.com/; ComponentLink2Description: Datasheet; ComponentLink2URL: http://www.national.com/ds.cgi/DC/ADC1241.pdf; ComponentLink3Description: Discontinuation Notice; ComponentLink3URL: http://www.national.com/obs/obsolescence.txt; ComponentLink4Description: URL Link1; ComponentLink4URL: http://www.national.com/pf/DC/ADC1241.html
footprint J28A (DIP; 28 Leads; Row Spacing 15.24 mm; Pitch 2.54 mm)
3D model J28A (DIP; 28 Leads; Row Spacing 15.24 mm; Pitch 2.54 mm)
pins: 1 VIN (in), 2 VREF (in), 3 AGND (power), 4 AVCC (power), 5 V- (in), 6 ~{AZ} (in), 7 ~{WR} (in), 8 CLK (in), 9 ~{CAL} (in), 10 ~{CS} (in), 11 ~{RD} (in), 12 EOC (out), 13 ~{INT} (out), 14 DGND (power), 15 DB0 (hiz), 16 DB1 (hiz), 17 DB2 (hiz), 18 DB3 (hiz), 19 DB4 (hiz), 20 DB5 (hiz), 21 DB6 (hiz), 22 DB7 (hiz), 23 DB8 (hiz), 24 DB9 (hiz), 25 DB10 (hiz), 26 DB11 (hiz), 27 DB12 (hiz), 28 DVCC (power)

## ADC1242CIJ
designator U?
12-Bit Plus Sign Sampling A/D Converter; ComponentAvailability: Obsolete; Published: 15-Apr-2002; LatestRevisionDate: 06-Jun-2005; LatestRevisionNote: Stylized 3D Model Added.; DatasheetVersion: Feb-1995; PackageVersion: 2000; PackageReference: J28A; Publisher: Altium Limited; PackageDescription: DIP; 28 Leads; Row Spacing 15.24 mm; Pitch 2.54 mm; ComponentLink1Description: Manufacturer Link; ComponentLink1URL: http://www.national.com/; ComponentLink2Description: Datasheet; ComponentLink2URL: http://www.national.com/ds.cgi/DC/ADC1242.pdf; ComponentLink3Description: Discontinuation Notice; ComponentLink3URL: http://www.national.com/obs/obsolescence.txt; ComponentLink4Description: URL Link1; ComponentLink4URL: http://www.national.com/pf/DC/ADC1242.html
footprint J28A (DIP; 28 Leads; Row Spacing 15.24 mm; Pitch 2.54 mm)
3D model J28A (DIP; 28 Leads; Row Spacing 15.24 mm; Pitch 2.54 mm)
pins: 1 VIN (in), 2 VREF (in), 3 AGND (power), 4 AVCC (power), 5 V- (in), 6 ~{AZ} (in), 7 ~{WR} (in), 8 CLK (in), 9 ~{CAL} (in), 10 ~{CS} (in), 11 ~{RD} (in), 12 EOC (out), 13 ~{INT} (out), 14 DGND (power), 15 DB0 (hiz), 16 DB1 (hiz), 17 DB2 (hiz), 18 DB3 (hiz), 19 DB4 (hiz), 20 DB5 (hiz), 21 DB6 (hiz), 22 DB7 (hiz), 23 DB8 (hiz), 24 DB9 (hiz), 25 DB10 (hiz), 26 DB11 (hiz), 27 DB12 (hiz), 28 DVCC (power)

## ADC1251BIJ
designator U?
Dynamically-Tested Self-Calibrating 12-Bit Plus Sign µP-Compatible A/D Converter with Sample-and-Hold; ComponentAvailability: Obsolete; Published: 15-Apr-2002; LatestRevisionDate: 06-Jun-2005; LatestRevisionNote: Stylized 3D Model Added.; DatasheetVersion: Dec-1994; PackageVersion: 2000; PackageReference: J24A; Publisher: Altium Limited; PackageDescription: DIP; 24 Leads; Row Spacing 15.24 mm; Pitch 2.54 mm; ComponentLink1Description: Manufacturer Link; ComponentLink1URL: http://www.national.com/; ComponentLink2Description: Datasheet; ComponentLink2URL: http://www.national.com/ds.cgi/DC/ADC1251.pdf; ComponentLink3Description: Discontinuation Notice; ComponentLink3URL: http://www.national.com/obs/obsolescence.txt; ComponentLink4Description: URL Link1; ComponentLink4URL: http://www.national.com/pf/DC/ADC1251.html
footprint J24A (DIP; 24 Leads; Row Spacing 15.24 mm; Pitch 2.54 mm)
3D model J24A (DIP; 24 Leads; Row Spacing 15.24 mm; Pitch 2.54 mm)
pins: 1 VIN (in), 2 VREF (in), 3 AGND (power), 4 AVCC (power), 5 V- (power), 6 ~{AZ} (in), 7 ~{WR} (in), 8 CLK (in), 9 ~{CAL} (in), 10 ~{CS} (in), 11 ~{S}/H (in), 12 DGND (power), 13 D0/D8 (hiz), 14 D1/D9 (hiz), 15 D2/D10 (hiz), 16 D3/D11 (hiz), 17 D4/D12 (hiz), 18 D5/D12 (hiz), 19 D6/D12 (hiz), 20 D7/D12 (hiz), 21 ~{INT} (out), 22 EOC (out), 23 ~{RD} (in), 24 DVCC (power)

## ADC1251CIJ
designator U?
Dynamically-Tested Self-Calibrating 12-Bit Plus Sign µP-Compatible A/D Converter with Sample-and-Hold; Published: 15-Apr-2002; LatestRevisionDate: 06-Jun-2005; LatestRevisionNote: Stylized 3D Model Added.; DatasheetVersion: Dec-1994; PackageVersion: 2000; PackageReference: J24A; Publisher: Altium Limited; PackageDescription: DIP; 24 Leads; Row Spacing 15.24 mm; Pitch 2.54 mm; ComponentLink1Description: Manufacturer Link; ComponentLink1URL: http://www.national.com/; ComponentLink2Description: Datasheet; ComponentLink2URL: http://www.national.com/ds.cgi/DC/ADC1251.pdf; ComponentLink3Description: URL Link1; ComponentLink3URL: http://www.national.com/pf/DC/ADC1251.html
footprint J24A (DIP; 24 Leads; Row Spacing 15.24 mm; Pitch 2.54 mm)
3D model J24A (DIP; 24 Leads; Row Spacing 15.24 mm; Pitch 2.54 mm)
pins: 1 VIN (in), 2 VREF (in), 3 AGND (power), 4 AVCC (power), 5 V- (power), 6 ~{AZ} (in), 7 ~{WR} (in), 8 CLK (in), 9 ~{CAL} (in), 10 ~{CS} (in), 11 ~{S}/H (in), 12 DGND (power), 13 D0/D8 (hiz), 14 D1/D9 (hiz), 15 D2/D10 (hiz), 16 D3/D11 (hiz), 17 D4/D12 (hiz), 18 D5/D12 (hiz), 19 D6/D12 (hiz), 20 D7/D12 (hiz), 21 ~{INT} (out), 22 EOC (out), 23 ~{RD} (in), 24 DVCC (power)

## ADC1251CMJ
designator U?
Dynamically-Tested Self-Calibrating 12-Bit Plus Sign µP-Compatible A/D Converter with Sample-and-Hold; ComponentAvailability: Obsolete; Published: 15-Apr-2002; LatestRevisionDate: 06-Jun-2005; LatestRevisionNote: Stylized 3D Model Added.; DatasheetVersion: Dec-1994; PackageVersion: 2000; PackageReference: J24A; Publisher: Altium Limited; PackageDescription: DIP; 24 Leads; Row Spacing 15.24 mm; Pitch 2.54 mm; ComponentLink1Description: Manufacturer Link; ComponentLink1URL: http://www.national.com/; ComponentLink2Description: Datasheet; ComponentLink2URL: http://www.national.com/ds.cgi/DC/ADC1251.pdf; ComponentLink3Description: Discontinuation Notice; ComponentLink3URL: http://www.national.com/obs/obsolescence.txt; ComponentLink4Description: URL Link1; ComponentLink4URL: http://www.national.com/pf/DC/ADC1251.html
footprint J24A (DIP; 24 Leads; Row Spacing 15.24 mm; Pitch 2.54 mm)
3D model J24A (DIP; 24 Leads; Row Spacing 15.24 mm; Pitch 2.54 mm)
pins: 1 VIN (in), 2 VREF (in), 3 AGND (power), 4 AVCC (power), 5 V- (power), 6 ~{AZ} (in), 7 ~{WR} (in), 8 CLK (in), 9 ~{CAL} (in), 10 ~{CS} (in), 11 ~{S}/H (in), 12 DGND (power), 13 D0/D8 (hiz), 14 D1/D9 (hiz), 15 D2/D10 (hiz), 16 D3/D11 (hiz), 17 D4/D12 (hiz), 18 D5/D12 (hiz), 19 D6/D12 (hiz), 20 D7/D12 (hiz), 21 ~{INT} (out), 22 EOC (out), 23 ~{RD} (in), 24 DVCC (power)

## ADC1251CMJ/883
designator U?
Dynamically-Tested Self-Calibrating 12-Bit Plus Sign µP-Compatible A/D Converter with Sample-and-Hold; Published: 15-Apr-2002; LatestRevisionDate: 06-Jun-2005; LatestRevisionNote: Stylized 3D Model Added.; DatasheetVersion: Dec-1994; PackageVersion: 2000; PackageReference: J24A; Publisher: Altium Limited; PackageDescription: DIP; 24 Leads; Row Spacing 15.24 mm; Pitch 2.54 mm; ComponentLink1Description: Manufacturer Link; ComponentLink1URL: http://www.national.com/; ComponentLink2Description: Datasheet; ComponentLink2URL: http://www.national.com/ds.cgi/DC/ADC1251.pdf; ComponentLink3Description: URL Link1; ComponentLink3URL: http://www.national.com/pf/DC/ADC1251.html
footprint J24A (DIP; 24 Leads; Row Spacing 15.24 mm; Pitch 2.54 mm)
3D model J24A (DIP; 24 Leads; Row Spacing 15.24 mm; Pitch 2.54 mm)
pins: 1 VIN (in), 2 VREF (in), 3 AGND (power), 4 AVCC (power), 5 V- (power), 6 ~{AZ} (in), 7 ~{WR} (in), 8 CLK (in), 9 ~{CAL} (in), 10 ~{CS} (in), 11 ~{S}/H (in), 12 DGND (power), 13 D0/D8 (hiz), 14 D1/D9 (hiz), 15 D2/D10 (hiz), 16 D3/D11 (hiz), 17 D4/D12 (hiz), 18 D5/D12 (hiz), 19 D6/D12 (hiz), 20 D7/D12 (hiz), 21 ~{INT} (out), 22 EOC (out), 23 ~{RD} (in), 24 DVCC (power)

## ADC08031BIN
designator U?
8-Bit High-Speed Serial I/O A/D Converter with Multiplexer Options, Voltage Reference and Track/Hold Function; ComponentAvailability: Obsolete; Published: 15-Apr-2002; LatestRevisionDate: 06-Jun-2005; LatestRevisionNote: Stylized 3D Model Added.; DatasheetVersion: May-1998; PackageVersion: Sep-1997; PackageReference: N08E; Publisher: Altium Limited; PackageDescription: DIP; 8 Leads; Row Spacing 7.62 mm; Pitch 2.54 mm; ComponentLink1Description: Manufacturer Link; ComponentLink1URL: http://www.national.com/; ComponentLink2Description: Datasheet; ComponentLink2URL: http://www.national.com/ds.cgi/DC/ADC08031.pdf; ComponentLink3Description: Discontinuation Notice; ComponentLink3URL: http://www.national.com/obs/obsolescence.txt; ComponentLink4Description: URL Link1; ComponentLink4URL: http://www.national.com/pf/DC/ADC08031.html
footprint N08E (DIP; 8 Leads; Row Spacing 7.62 mm; Pitch 2.54 mm)
3D model N08E (DIP; 8 Leads; Row Spacing 7.62 mm; Pitch 2.54 mm)
pins: 1 ~{CS} (in), 2 VIN+ (in), 3 VIN- (in), 4 GND (power), 5 VREF IN (in), 6 DO (hiz), 7 CLK (in), 8 VCC (power)